# EAGLE library part LINK_CONNECTOR (library gba-zero-parts)
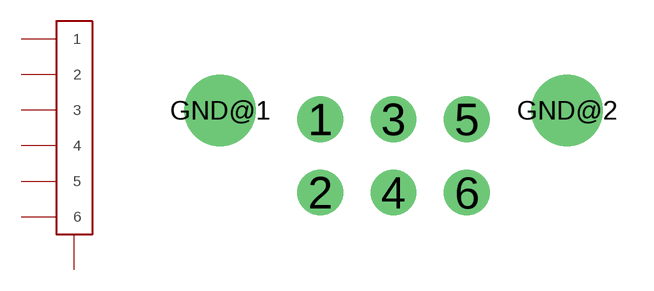
[diagram p4: symbol with the pads of LINK_CONNECTOR; footprint LINK_CONNECTOR]

Designator prefix P

## LINK_CONNECTOR  [LINK_CONNECTOR]
1  1
2  2
3  3
4  4
5  5
6  6
GND@1  GND
GND@2  GND

## Footprint LINK_CONNECTOR (pad centres in mm)
drill 0.838: 1 -2.159,2.159; 2 -2.159,0; 3 0,2.159; 4 0,0; 5 2.159,2.159; 6 2.159,0
drill 1.397 pad 1.905: GND@1 -5.105,2.413; GND@2 5.105,2.413